# EAGLE library part SL88004 (library logick)
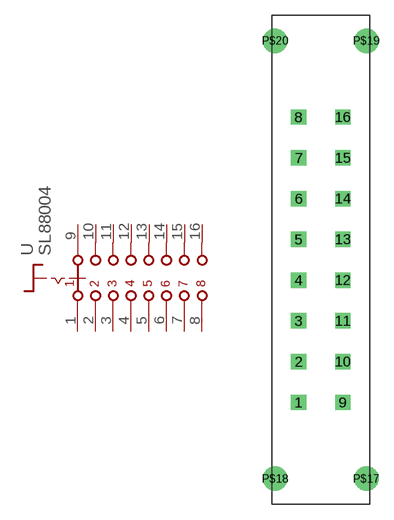
[diagram p4: symbol with the pads of SL88004; footprint SL88004]

Designator prefix -

## SL88004  [SL88004]
1  1  pas
2  2  pas
3  3  pas
4  4  pas
5  5  pas
6  6  pas
7  7  pas
8  8  pas
9  C1  pas
10  C2  pas
11  C3  pas
12  C4  pas
13  C5  pas
14  C6  pas
15  C7  pas
16  C8  pas

## Footprint SL88004 (pad centres in mm)
drill 1 square: 1 -2.17,-14; 2 -2.17,-10; 3 -2.17,-6; 4 -2.17,-2; 5 -2.17,2; 6 -2.17,6; 7 -2.17,10; 8 -2.17,14; 9 2.17,-14; 10 2.17,-10; 11 2.17,-6; 12 2.17,-2; 13 2.17,2; 14 2.17,6; 15 2.17,10; 16 2.17,14
drill 1.6: P$17 4.475,-21.5; P$18 -4.475,-21.5; P$19 4.475,21.5; P$20 -4.475,21.5